# EAGLE library part MS108-1MD3T1B1M2QE-EVX (library APC1)
Mountain Switch Toggle DPDT model 108-1MD3T1B1M2QE-EVX This model has a center-off (no connection) position It is available from Mouser, part number 108-1MD3T1B1M2QE-EVX Mouser link as of 2016: here <http://www.mouser.com/ProductDetail/Mountain-Switch/108-1MD3T1B1M2QE-EVX/>. Digikey does not carry the part as of 2016. Amazon carries the part, but only in lots of 500.
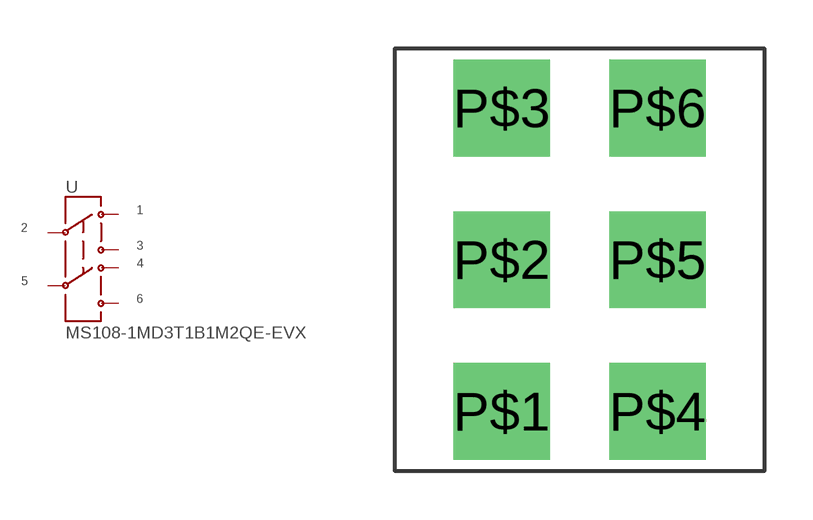
[diagram p0: symbol with the pads of MS108-1MD3T1B1M2QE-EVX; footprint MS108-1MD3T1B1M2QE-EVX]

Designator prefix -

## MS108-1MD3T1B1M2QE-EVX (MOUSER: 108-1MD3T1B1M2QE-EVX)  [MS108-1MD3T1B1M2QE-EVX]
P$1  1
P$2  2
P$3  3
P$4  4
P$5  5
P$6  6

## Footprint MS108-1MD3T1B1M2QE-EVX (pad centres in mm)
Mountain Switch DPDT center-off toggle 108-1MD3T1B1M2QE-EVX Version 06-11-12 Rated Rating: 2A / 250VAC; 5A / 120VA, or 5A / 28VDC Insulation Resistance: 1,000MΩ, min. Dielectric Strength: 1,000 V RMS @ sea level Tech dimensions and specs at Mouser.com <http://www.mouser.com/ds/2/209/MS-100747-199731.pdf>.
drill 2 square: P$1 2,2; P$2 2,6.7; P$3 2,11.4; P$4 6.83,2; P$5 6.83,6.7; P$6 6.83,11.4